# EAGLE library part 201646-012_S (library con-molex-spoton)
HEADER
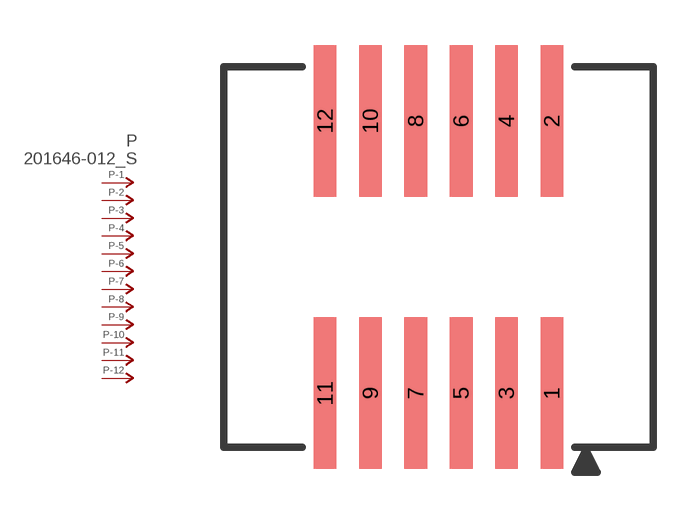
[diagram p7: symbol with the pads of 201646-012; footprint 201646-012]

Designator prefix P; gates -1=P-NV -2=P-N -3=P-N -4=P-N -5=P-N -6=P-N -7=P-N -8=P-N -9=P-N -10=P-N -11=P-N -12=P-N

## 201646-012_S  [201646-012]
1  -1:P  pas
2  -2:P  pas
3  -3:P  pas
4  -4:P  pas
5  -5:P  pas
6  -6:P  pas
7  -7:P  pas
8  -8:P  pas
9  -9:P  pas
10  -10:P  pas
11  -11:P  pas
12  -12:P  pas

## Footprint 201646-012 (pad centres in mm)
HEADER
smd 0.75 x 5: 1 3.75,-4.5; 2 3.75,4.5; 3 2.25,-4.5; 4 2.25,4.5; 5 0.75,-4.5; 6 0.75,4.5; 7 -0.75,-4.5; 8 -0.75,4.5; 9 -2.25,-4.5; 10 -2.25,4.5; 11 -3.75,-4.5; 12 -3.75,4.5